# Altium schematic symbol library SFPextension.SCHLIB: 3 symbols
Pins are listed as number, name and electrical type; pins without a type are passive.

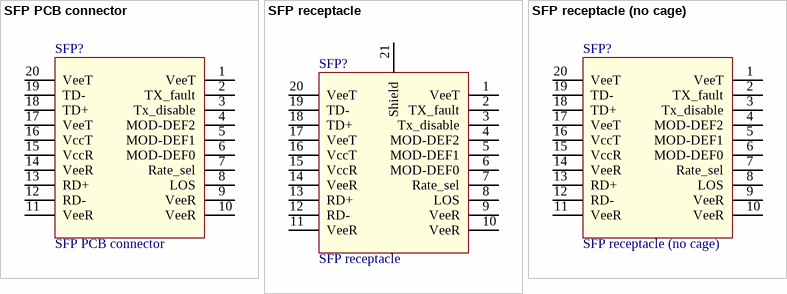
[diagram p0: symbols SFP PCB connector to SFP receptacle (no cage)]

## SFP PCB connector
designator SFP?
footprint SFP pcb con
pins: 1 VeeT (power), 2 TX_fault (power), 3 Tx_disable (power), 4 MOD-DEF2 (power), 5 MOD-DEF1 (power), 6 MOD-DEF0 (power), 7 Rate_sel (power), 8 LOS (power), 9 VeeR (power), 10 VeeR (power), 11 VeeR (power), 12 RD- (power), 13 RD+ (power), 14 VeeR (power), 15 VccR (power), 16 VccT (power), 17 VeeT (power), 18 TD+ (power), 19 TD- (power), 20 VeeT (power)

## SFP receptacle
designator SFP?
footprint SFP receptacle
pins: 1 VeeT (power), 2 TX_fault (power), 3 Tx_disable (power), 4 MOD-DEF2 (power), 5 MOD-DEF1 (power), 6 MOD-DEF0 (power), 7 Rate_sel (power), 8 LOS (power), 9 VeeR (power), 10 VeeR (power), 11 VeeR (power), 12 RD- (power), 13 RD+ (power), 14 VeeR (power), 15 VccR (power), 16 VccT (power), 17 VeeT (power), 18 TD+ (power), 19 TD- (power), 20 VeeT (power), 21 Shield (power)

## SFP receptacle (no cage)
designator SFP?
footprint SFP receptacle (no cage)
pins: 1 VeeT (power), 2 TX_fault (power), 3 Tx_disable (power), 4 MOD-DEF2 (power), 5 MOD-DEF1 (power), 6 MOD-DEF0 (power), 7 Rate_sel (power), 8 LOS (power), 9 VeeR (power), 10 VeeR (power), 11 VeeR (power), 12 RD- (power), 13 RD+ (power), 14 VeeR (power), 15 VccR (power), 16 VccT (power), 17 VeeT (power), 18 TD+ (power), 19 TD- (power), 20 VeeT (power)